# Altium footprint library Boxes.PcbLib: 2 footprints
Each footprint in its own frame and in the unit in brackets; x right, y up, seen from the top. Pads: shape width x height; smd on the part's side, far side on the other; paste and mask are expansions set on the pad; w line width, h text height; cw(c..) or ccw(c..) is an arc to the next point about the centre after c.
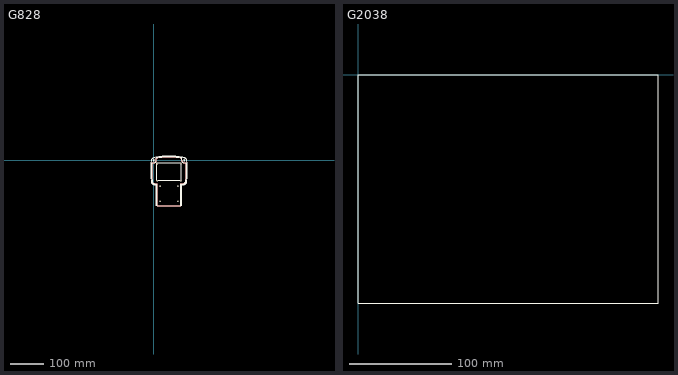
[diagram p0: the footprints below, top view; thin cyan lines are the x and y axes]

## G828 [mm]
pads (8):
  round 4.5 hole 3: 1(10,-61) 2(18.4,-122) 2(18.4,-77) 2(71.6,-122) 2(71.6,-77) 2(80,-61) 3(80,-10) 4(10,-10)
Top Layer:
  lines w0.5: -4.629,-65.561 cw(c242.901,-30.5) -5.991,-6.99 -0.01,-6.99 0,-7 ccw(c0,0) 7,0 7,6.293 ; -4.601,-65.545 ccw(c1.732,-61.903) 0,-69 10,-69 10,-136 80,-136 80,-69 88,-69 ; 6.942,6.293 cw(c45.1,-190.033) 83.008,6.342 ; 83,6.3 83,0 ccw(c90,0) 90,-7 96,-7 ; 88,-69.013 ccw(c87.905,-61.998) 94.895,-62.602 ; 94.908,-62.604 ccw(c-153.023,-30.5) 95.87,-6.995
Top Overlay:
  circle w0.254: c90,0 r1.5
  circle w0.254: c0,0 r1.5
  lines w0.254: 0,0 0,0 ; 9,-58.5 81,-58.5 81,-6.5 9,-6.5 9,-58.5
  lines w0.5: -8.241,-0.019 ccw(c239.901,-30.445) -7.629,-65.504 ; -8.214,-0.003 cw(c1.5,-2.033) -0.287,7.729 ; -7.6,-65.5 ccw(c1.786,-62.262) -0.005,-72.027 ; -5.992,-6.991 ccw(c242.901,-30.5) -4.629,-65.561 ; -5.9,-7 0,-7 ccw(c0,0) 7,0 7,6.293 ; -4.601,-65.545 ccw(c1.732,-61.903) 0,-69 10,-69 10,-136 80,-136 80,-69 88,-69 ; -0.152,7.78 cw(c45.1,-187.033) 90.087,7.842 ; 0,-72 7,-72 7,-136 ; 6.943,6.293 cw(c45.1,-190.033) 83.008,6.342 ; 83,-136 83,-72 90,-72 ccw(c88.275,-62.227) 97.608,-65.603 ; 83,6.3 83,0 ccw(c90,0) 90,-7 96,-7 ; 88,-69.013 ccw(c87.905,-61.998) 94.895,-62.602 ; 90.075,7.766 cw(c88.5,-2.033) 98.207,0.033 cw(c-149.922,-30.49) 97.6,-65.602 ; 94.908,-62.603 ccw(c-153.023,-30.5) 95.87,-6.993

## G2038 [mm]
Top Overlay:
  lines w0.254: 0,-224 294,-224 294,0 0,0 0,-224